# EAGLE library part FGPMMOPA6H (library Underwater-Camera-v2.0)
-165 dBm sensitivity, 10 Hz updates, 66 channels Ultra low power usage: 20mA current draw while tracking 3.3V operation RTC battery-compatible Built-in datalogging PPS output on fix We have received reports that it works up to ~32Km altitude (the GPS theoretically does not have a limit until 40Km) Internal patch antenna + connection for optional external active antenna Fix status output Ultra small size: only 16mm x 16mm x 5mm and 4 grams
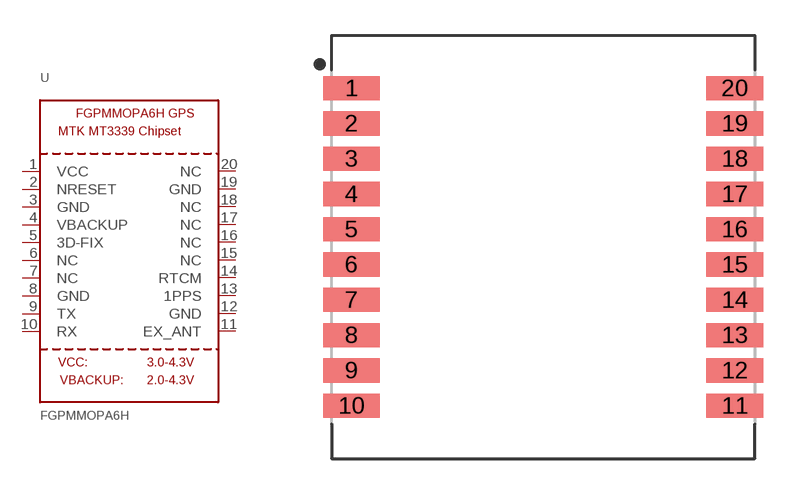
[diagram p6: symbol with the pads of SON150P1800X1800X500-20; footprint SON150P1800X1800X500-20]

Designator prefix -

## FGPMMOPA6HFGPMMOPA6H  [SON150P1800X1800X500-20]
1  VCC
2  NRESET
3  GND
4  VBACKUP
5  3D-FIX
6  NC
7  NC
8  GND
9  TX
10  RX
11  EX_ANT
12  GND
13  1PPS
14  RTCM
15  NC
16  NC
17  NC
18  NC
19  GND
20  NC

## Footprint SON150P1800X1800X500-20 (pad centres in mm)
20-SON, 1.50 mm pitch, 18.00 X 18.00 X 5.00 mm body 20-pin SON package with 1.50 mm pitch with body size 18.00 X 18.00 X 5.00 mm
smd 2.412 x 1.032: 1 -8.15,6.75; 2 -8.15,5.25; 3 -8.15,3.75; 4 -8.15,2.25; 5 -8.15,0.75; 6 -8.15,-0.75; 7 -8.15,-2.25; 8 -8.15,-3.75; 9 -8.15,-5.25; 10 -8.15,-6.75; 11 8.15,-6.75; 12 8.15,-5.25; 13 8.15,-3.75; 14 8.15,-2.25; 15 8.15,-0.75; 16 8.15,0.75; 17 8.15,2.25; 18 8.15,3.75; 19 8.15,5.25; 20 8.15,6.75